# Altium schematic symbol library TDA7292 Amplifier.SchLib: 16 symbols
Pins are listed as number, name and electrical type; pins without a type are passive.

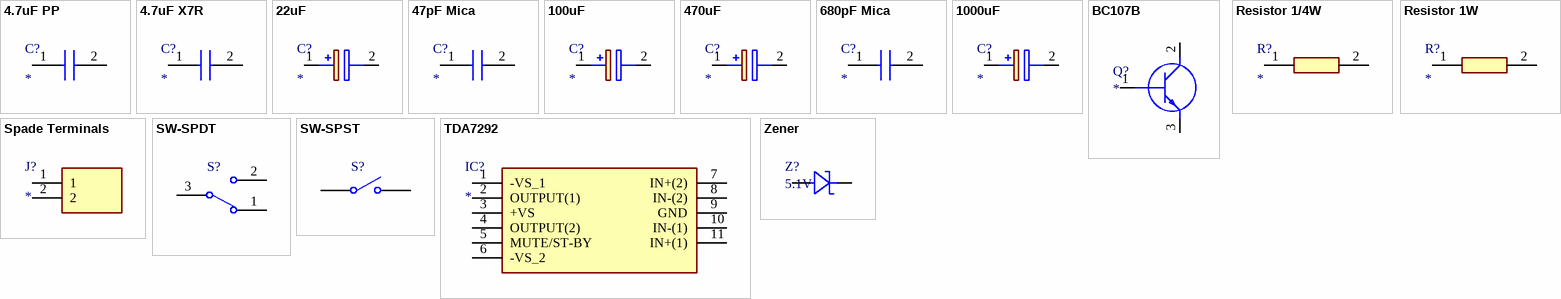
[diagram p0: symbols 4.7uF PP to Zener]

## 4.7uF PP
designator C?
Cap Film 4.7uF 450VDC PP 5% (25.3 X 11.7 X 16.4mm) Radial 22.5mm 110C Bulk; Manufacturer: Panasonic; Manufacturer Part Number: ECW-FD2W475J; Voltage Rating (DC): 450V; Lead/Base Style: Straight; Lead Diameter: 0.8mm; Supplier 1: Digi-Key; RoHS: Yes; Category: Film Capacitors; Stock 1: 1224; Pricing 1: 1=1.26000, 10=0.99800, 100=0.74880, 500=0.56576, 1000=0.49920, 2500=0.46592, 5000=0.44928 (USD); Mount: Through Hole; Case/Package: Radial; Number of Pins: 2; Dielectric Material: PP; Contact Plating: Tin; Min Operating Temperature: -40°C; Max Operating Temperature: 110°C; Termination: Radial; Dielectric: PP; Package Quantity: 100; Packaging: Bulk; Tolerance: 5%; Voltage: 450V; Voltage Rating: 450V; Length: 25.3mm; Height: 16.4mm; Height - Seated (Max): 0.646inch; Width: 11.7mm; Lead Pitch: 22.5mm; Depth: 11.7mm; REACH SVHC: Unknown; ComponentLink1URL: https://datasheet.ciiva.com/30042/abd0000ce52-30042702.pdf?src-supplier=Avnet; ComponentLink1Description: https://datasheet.ciiva.com/30042/abd0000ce52-30042702.pdf?src-supplier=Avnet; Supplier Part Number 1: P16728-ND; Capacitance: 4.7uF
footprint 4.7UF Polypropylene
pins: 1, 2

## 4.7uF X7R
designator C?
Capacitor 4.7UF 50V X7R; Manufacturer_Name: Murata Electronics; Manufacturer_Part_Number: RCER71H475K3M1H03A; Datasheet Link: https://psearch.en.murata.com/capacitor/product/RCER71H475K3M1H03A.html; Height: 7.5mm; Mouser Part Number: 81-RCER71H475K3M1H3A; Mouser Price/Stock: https://www.mouser.com/Search/Refine.aspx?Keyword=81-RCER71H475K3M1H3A
footprint Capacitor 4.7UF 50V X7R
pins: 1, 2

## 22uF
designator C?
Electroletic Capacitor Polarised; Manufacturer_Name: Panasonic; Manufacturer_Part_Number: EEU-FM1H220; Datasheet Link: https://industrial.panasonic.com/cdbs/www-data/pdf/RDF0000/ABA0000C1018.pdf; Height: 12.5mm; Mouser Part Number: 667-EEU-FM1H220; Mouser Price/Stock: https://www.mouser.com/Search/Refine.aspx?Keyword=667-EEU-FM1H220
footprint Capacitor 22uF
pins: 1 +, 2 -

## 47pF Mica
designator C?
Capacitor 47pF Mica; Manufacturer_Name: Cornell Dubilier; Manufacturer_Part_Number: CD15FD221FO3F; Allied_Number: 70190178; Datasheet Link: https://componentsearchengine.com/Datasheets/2/CD15FD221FO3F.pdf; Height: 11.681mm; Mouser Part Number: 598-CD15FD221FO3F; Mouser Price/Stock: https://www.mouser.com/Search/Refine.aspx?Keyword=598-CD15FD221FO3F; RS Part Number: 8713331; RS Price/Stock: http://uk.rs-online.com/web/p/products/8713331; Allied Price/Stock: https://www.alliedelec.com/cornell-dubilier-cd15fd221fo3f/70190178/
footprint 47pF Mica
pins: 1, 2

## 100uF
designator C?
Electroletic Capacitor Polarised; Manufacturer_Name: Panasonic; Manufacturer_Part_Number: EEU-FM1H101; Allied_Number: 70257585; Datasheet Link: https://industrial.panasonic.com/cdbs/www-data/pdf/RDF0000/ABA0000C1019.pdf; Height: 13mm; Mouser Part Number: 667-EEU-FM1H101; Mouser Price/Stock: https://www.mouser.com/Search/Refine.aspx?Keyword=667-EEU-FM1H101; Allied Price/Stock: https://www.alliedelec.com/panasonic-eeu-fm1h101/70257585/
footprint Capacitor 100uF
pins: 1 +, 2 -

## 470uF
designator C?
Electroletic Capacitor Polarised; Manufacturer_Name: Panasonic; Manufacturer_Part_Number: EEUFM1H471; Datasheet Link: https://industrial.panasonic.com/cdbs/www-data/pdf/RDF0000/ABA0000C1018.pdf; Height: 22mm; RS Part Number: 5261698P; RS Price/Stock: http://uk.rs-online.com/web/p/products/5261698P
footprint Capacitor 470uF
pins: 1 +, 2 -

## 680pF Mica
designator C?
Capacitor 680pF Mica; Manufacturer_Name: Cornell Dubilier; Manufacturer_Part_Number: CD15FD221FO3F; Allied_Number: 70190178; Datasheet Link: https://componentsearchengine.com/Datasheets/2/CD15FD221FO3F.pdf; Height: 11.681mm; Mouser Part Number: 598-CD15FD221FO3F; Mouser Price/Stock: https://www.mouser.com/Search/Refine.aspx?Keyword=598-CD15FD221FO3F; RS Part Number: 8713331; RS Price/Stock: http://uk.rs-online.com/web/p/products/8713331; Allied Price/Stock: https://www.alliedelec.com/cornell-dubilier-cd15fd221fo3f/70190178/
footprint 680pF Mica
pins: 1, 2

## 1000uF
designator C?
Electroletic Capacitor Polarised; Manufacturer_Name: Nichicon; Manufacturer_Part_Number: UHE1H102MHD6TN; Datasheet Link: http://nichicon-us.com/english/products/pdfs/e-uhe.pdf; Height: 27mm; Mouser Part Number: 647-UHE1H102MHD6TN; Mouser Price/Stock: https://www.mouser.com/Search/Refine.aspx?Keyword=647-UHE1H102MHD6TN
footprint Capacitor 1000uF
pins: 1 +, 2 -

## BC107B
designator Q?
Transistor BJT NPN; Manufacturer_Name: STMicroelectronics; Manufacturer_Part_Number: BC107B; Datasheet Link: http://docs-emea.rs-online.com/webdocs/0e77/0900766b80e779e3.pdf; Mouser Part Number: 511-BC107B; Mouser Price/Stock: https://www.mouser.com/Search/Refine.aspx?Keyword=511-BC107B; RS Part Number: 7140489P; RS Price/Stock: http://uk.rs-online.com/web/p/products/7140489P
footprint TO-18
pins: 1 B, 2 C, 3 E

## Resistor 1/4W
designator R?
Resistor; Manufacturer_Name: YAGEO (PHYCOMP); Manufacturer_Part_Number: CFR-25JT-52-1K; Datasheet Link: http://www.yageo.com/NewPortal/yageodocoutput?fileName=/pdf/throughhole/Yageo_LR_CFR_2013.pdf; Mouser Part Number: 603-CFR-25JT-52-1K; Mouser Price/Stock: https://www.mouser.com/Search/Refine.aspx?Keyword=603-CFR-25JT-52-1K
footprint RES 1/4W
pins: 1, 2

## Resistor 1W
designator R?
Resistor 1W; Manufacturer_Name: Ohmite; Manufacturer_Part_Number: OM2405E-R58; Datasheet Link: https://www.mouser.com/datasheet/2/942/SF_AGH_Series-1508337.pdf; Mouser Part Number: 588-OM2405E-R58; Mouser Price/Stock: https://www.mouser.com/Search/Refine.aspx?Keyword=588-OM2405E-R58
footprint RES 1W
pins: 1, 2

## Spade Terminals
designator J?
Connector; Manufacturer_Name: TE Connectivity; Manufacturer_Part_Number: 725964-2; Allied_Number: 70285916; Datasheet Link: https://www.te.com/commerce/DocumentDelivery/DDEController?Action=showdoc&DocId=Customer+Drawing%7F725964%7FD2%7Fpdf%7FEnglish%7FENG_CD_725964_D2.pdf%7F725964-2; Height: 13.1mm; Mouser Part Number: 571-725964-2; Mouser Price/Stock: https://www.mouser.com/Search/Refine.aspx?Keyword=571-725964-2; RS Part Number: 1640091; RS Price/Stock: http://uk.rs-online.com/web/p/products/1640091; Allied Price/Stock: https://www.alliedelec.com/teconnectivity-725964-2/70285916/
footprint Spade Terminals
pins: 1, 2

## SW-SPDT
designator S?
SPDT Subminiature Toggle Switch, Right Angle Mounting, Vertical Actuation; Published: 24-Mar-1999; LatestRevisionDate: 17-Dec-2003; LatestRevisionNote: Schematic revised, PCB Footprint replaced.; DatasheetVersion: 05-Dec-2000; PackageReference: TL36WW15050; Publisher: Altium Limited; PackageDescription: Switch; 4 Leads; ComponentLink1Description: Manufacturer Link; ComponentLink1URL: http://www.apem.com
footprint SPDT
pins: 1, 2, 3

## SW-SPST
designator S?
Single-Pole, Single-Throw Switch; Published: 24-Mar-1999; LatestRevisionDate: 17-Jul-2002; LatestRevisionNote: Re-released for DXP Platform.; PackageReference: SPST-2; Publisher: Altium Limited; PackageDescription: Switch; 2 Leads
footprint SPST
pins: 1 COMMON, 2 NO

## TDA7292
designator IC?
Integrated Circuit; Manufacturer_Name: STMicroelectronics; Manufacturer_Part_Number: TDA7292; Datasheet Link: http://www.st.com/content/ccc/resource/technical/document/datasheet/1a/b1/d0/90/8b/8d/40/fe/CD00236549.pdf/files/CD00236549.pdf/jcr:content/translations/en.CD00236549.pdf; Height: 5mm; Mouser Part Number: 511-TDA7292; Mouser Price/Stock: https://www.mouser.com/Search/Refine.aspx?Keyword=511-TDA7292
footprint TDA7292
pins: 1 -VS_1, 2 OUTPUT(1), 3 +VS, 4 OUTPUT(2), 5 MUTE/ST-BY, 6 -VS_2, 7 IN+(2), 8 IN-(2), 9 GND, 10 IN-(1), 11 IN+(1)

## Zener
designator Z?, comment 5.1V
Zener Diode 5.1V; Manufacturer_Part_Number: BZX55C5V1-TAP; Vendor: Vishay; Built_By: EMA_UL_Team; Copyright: Copyright (C) 2018 Accelerated Designs. All rights reserved; RefDes: RefDes; Type: DEV; Value: Value
footprint DO-35 Zener
pins: 1, 2